# EAGLE library part 61000611921 (library Wurth_Elektronik_Electromechanic_Board_to_Board_Connectors_rev16a)
WR-PHD 2.54mm SMT Socket Header, 6 Pins=>Code : CON_BTB_SHD_2.54_1_SMT_61000611921 <http://katalog.we-online.de/media/images/eican/Con_BTB_SHD_2.54_1_SMT_6100xx11921_pf2.jpg> Details see: http://katalog.we-online.de/en/em/610_0xx_119_21 Created 2014-05-30, Karrer Zheng 2014 (C) Würth Elektronik
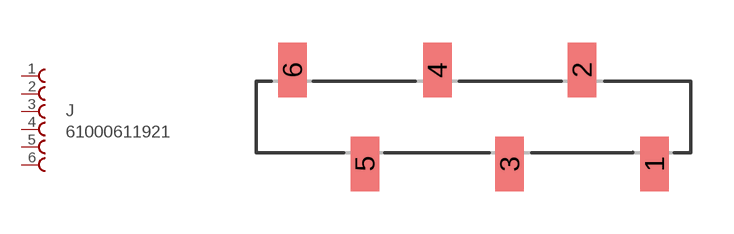
[diagram p196: symbol with the pads of 61000611921; footprint 61000611921]

Designator prefix J

## 61000611921  [61000611921]
1  1  pas
2  2  pas
3  3  pas
4  4  pas
5  5  pas
6  6  pas

## Footprint 61000611921 (pad centres in mm)
WR-PHD 2.54mm SMT Socket Header, 6 Pins
smd 1 x 1.91: 1 6.35,-1.645; 2 3.81,1.645; 3 1.27,-1.645; 4 -1.27,1.645; 5 -3.81,-1.645; 6 -6.35,1.645